# Altium footprint library PQFN_3x3.PcbLib: 1 footprints
Each footprint in its own frame and in the unit in brackets; x right, y up, seen from the top. Pads: shape width x height; smd on the part's side, far side on the other; paste and mask are expansions set on the pad; w line width, h text height; cw(c..) or ccw(c..) is an arc to the next point about the centre after c.
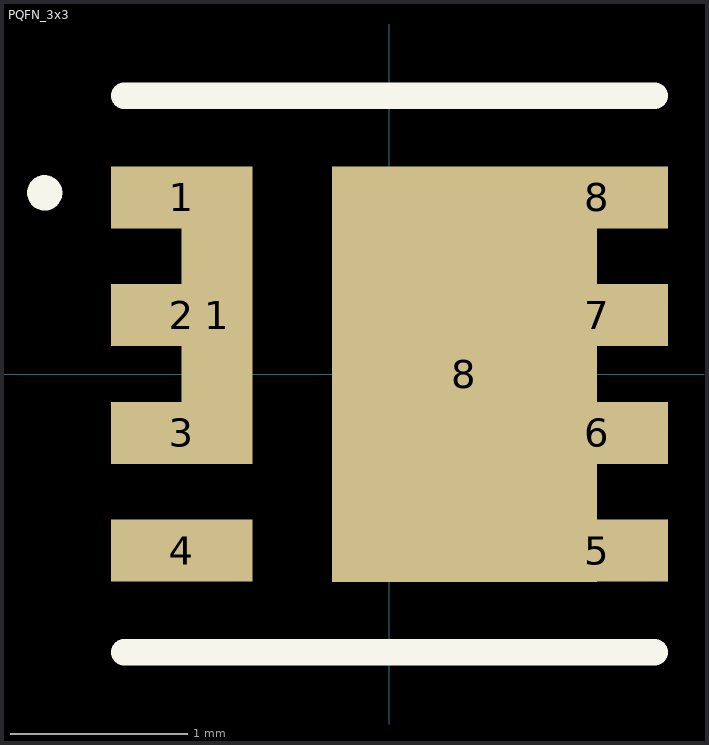
[diagram p0: the footprint, top view; thin cyan lines are the x and y axes]

## PQFN_3x3 [mm]
pads (10):
  rect 0.8x0.35 smd: 1(-1.175,0.999) 2(-1.175,0.333) 3(-1.175,-0.333) 4(-1.175,-0.999) 5(1.175,-0.999) 6(1.175,-0.333) 7(1.175,0.333) 8(1.175,0.999)
  rect 0.4x1.675 smd: 1(-0.975,0.333)
  rect 1.5x2.35 smd: 8(0.425,-0.001)
Top Overlay:
  circle w0.1: c-1.95,1.025 r0.05
  lines w0.15: -1.5,-1.574 1.5,-1.574 ; -1.5,1.574 1.5,1.574
3D body: height 1, standoff 0, extent -1.5,-1.501 1.5,1.499